# EAGLE library part AG9905LP (library Ag9905LP)
Power Management Modules IEEE802.3af PD module. 5V 7W, low profile Source: Datasheet <https://silvertel.com/images/datasheets/Ag9900M-datasheet-ultra-miniature-isolated-Power-over-Ethernet-POE-module.pdf>
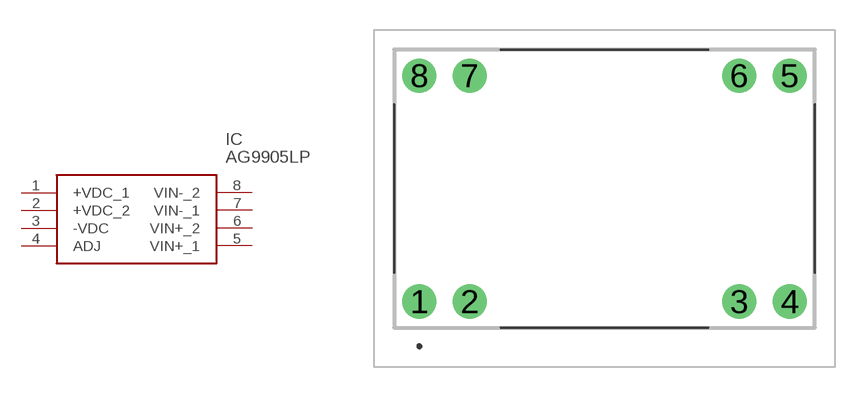
[diagram p0: symbol with the pads of Ag9905LP; footprint Ag9905LP]

Designator prefix IC

## AG9905LP (Description: Power Management Modules IEEE802.3af PD module. 5V 7W, low profile; Height: 8.5mm; Manufacturer_Name: Silvertel; Manufacturer_Part_Number: Ag9905LP; Mouser_Part_Number: 480-AG9905LP; Mouser_Price-Stock: https://www.mouser.co.uk/ProductDetail/Silvertel/Ag9905LP?qs=OlC7AqGiEDm9ZoM6zJQCoQ%3D%3D)  [Ag9905LP]
1  +VDC_1
2  +VDC_2
3  -VDC
4  ADJ
5  VIN+_1
6  VIN+_2
7  VIN-_1
8  VIN-_2

## Footprint Ag9905LP (pad centres in mm)
Ag9905LP-1
drill 1.15 pad 1.725: 1 0,0; 2 2.54,0; 3 16.11,0; 4 18.65,0; 5 18.65,11.38; 6 16.11,11.38; 7 2.54,11.38; 8 0,11.38